# Altium footprint library WeAct-STM32F103RCXX.PcbLib: 1 footprints
Each footprint in its own frame and in the unit in brackets; x right, y up, seen from the top. Pads: shape width x height; smd on the part's side, far side on the other; paste and mask are expansions set on the pad; w line width, h text height; cw(c..) or ccw(c..) is an arc to the next point about the centre after c.
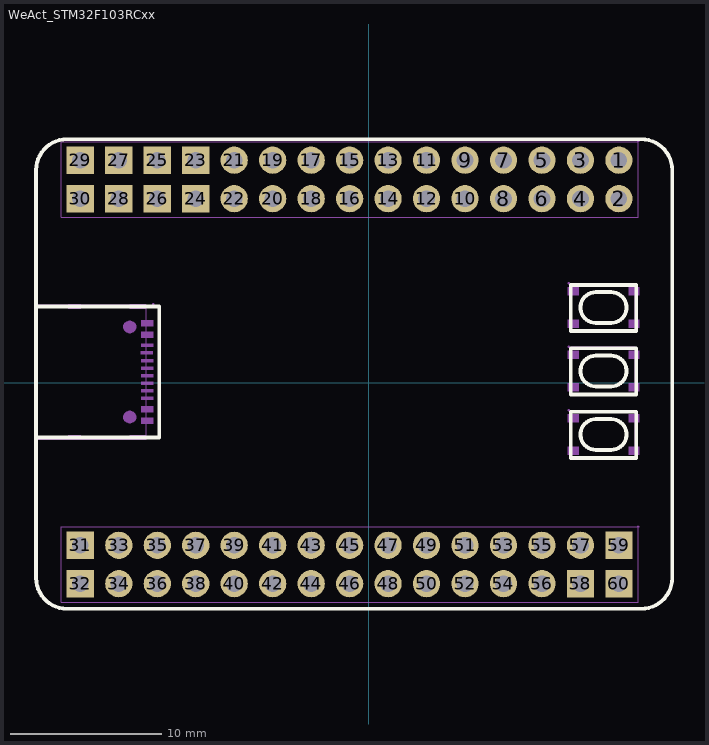
[diagram p0: the footprint, top view; thin cyan lines are the x and y axes]

## WeAct_STM32F103RCxx [mm]
pads (60):
  round 1.8 hole 1.1 paste+0 mask+0.051: 1(16.51,14.707) 2(16.51,12.167) 3(13.97,14.707) 4(13.97,12.167) 5(11.43,14.707) 6(11.43,12.167) 7(8.89,14.707) 8(8.89,12.167) 9(6.35,14.707) 10(6.35,12.167) 11(3.81,14.707) 12(3.81,12.167) 13(1.27,14.707) 14(1.27,12.167) 15(-1.27,14.707) 16(-1.27,12.167) 17(-3.81,14.707) 18(-3.81,12.167) 19(-6.35,14.707) 20(-6.35,12.167) 21(-8.89,14.707) 22(-8.89,12.167) 33(-16.51,-10.719) 34(-16.51,-13.259) 35(-13.97,-10.719) 36(-13.97,-13.259) 37(-11.43,-10.719) 38(-11.43,-13.259) 39(-8.89,-10.719) 40(-8.89,-13.259) 41(-6.35,-10.719) 42(-6.35,-13.259) 43(-3.81,-10.719) 44(-3.81,-13.259) 45(-1.27,-10.719) 46(-1.27,-13.259) 47(1.27,-10.719) 48(1.27,-13.259) 49(3.81,-10.719) 50(3.81,-13.259) 51(6.35,-10.719) 52(6.35,-13.259) 53(8.89,-10.719) 54(8.89,-13.259) 55(11.43,-10.719) 56(11.43,-13.259) 57(13.97,-10.719)
  rect 1.8x1.8 hole 1.1 paste+0 mask+0.051: 23(-11.43,14.707) 24(-11.43,12.167) 25(-13.97,14.707) 26(-13.97,12.167) 27(-16.51,14.707) 28(-16.51,12.167) 29(-19.05,14.707) 30(-19.05,12.167) 31(-19.05,-10.719) 32(-19.05,-13.259) 58(13.97,-13.259) 59(16.51,-10.719) 60(16.51,-13.259)
Top Overlay:
  lines w0.254: -20.706,5.042 -13.843,5.042 -13.843,-3.175 ; -20.628,-3.594 -13.843,-3.594 -13.843,-3.027 ; -20.47,-3.594 -21.971,-3.594 -21.971,5.042 -20.47,5.042 ; -18.407,-3.594 -16.54,-3.594 ; -18.407,5.042 -16.54,5.042 ; 14.113,-4.954 16.875,-4.954 ; 14.113,-0.763 16.875,-0.763 ; 14.113,3.428 16.875,3.428 ; -21.971,-12.878 ccw(c-19.939,-12.878) -19.939,-14.91 17.997,-14.91 ccw(c17.997,-12.878) 20.029,-12.878 20.029,14.058 ccw(c17.997,14.058) 17.997,16.09 -19.939,16.09 ccw(c-19.939,14.058) -21.971,14.058 -21.971,-12.878 ; 13.335,-4.953 17.653,-4.953 17.653,-1.905 13.335,-1.905 13.335,-4.953 ; 13.335,-0.762 17.653,-0.762 17.653,2.286 13.335,2.286 13.335,-0.762 ; 13.335,3.429 17.653,3.429 17.653,6.477 13.335,6.477 13.335,3.429 ; 14.986,-4.42 cw(c14.986,-3.404) 14.986,-2.388 16.002,-2.388 cw(c16.002,-3.404) 16.002,-4.42 14.986,-4.42 ; 14.986,-0.229 cw(c14.986,0.787) 14.986,1.803 16.002,1.803 cw(c16.002,0.787) 16.002,-0.229 14.986,-0.229 ; 14.986,3.962 cw(c14.986,4.978) 14.986,5.994 16.002,5.994 cw(c16.002,4.978) 16.002,3.962 14.986,3.962
Mechanical 15:
  drawing of 122 lines, arcs and shapes, not listed